# Altium integrated library NPN~SOT-223.IntLib: 1 symbol
Pins are listed as number, name and electrical type; pins without a type are passive.

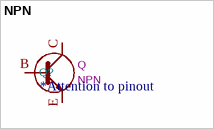
[diagram p0: symbol NPN]

## NPN
designator Q?, comment *Attention to pinout  value NPN  Reference: Q
ki_keywords: NPN Bipolar Transistor; ki_description: Symbol for NPN BJT
footprint SOT-223 (SOT223, 4-Leads)
pins: B, C, E